# Altium schematic symbol library Mezeq_Wireless_Modules.SchLib: 2 symbols
Pins are listed as number, name and electrical type; pins without a type are passive.

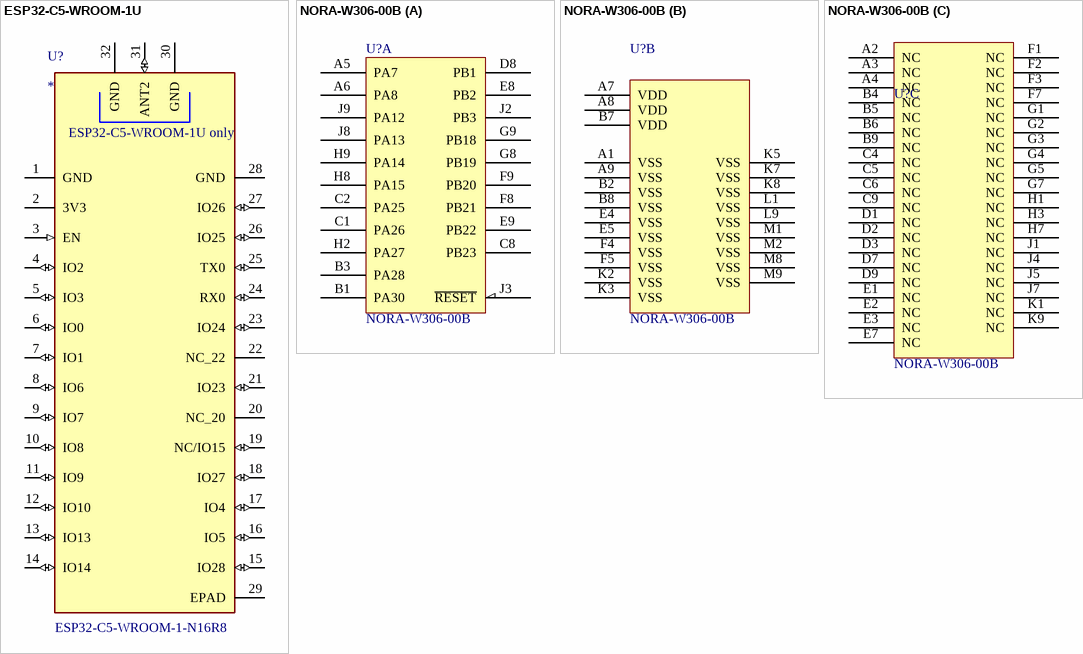
[diagram p0: symbols ESP32-C5-WROOM-1U to NORA-W306-00B]

## ESP32-C5-WROOM-1U
designator U?  Manufacturer Part Number 1: ESP32-C5-WROOM-1-N16R8
802.15.4, Bluetooth, WiFi 802.11b/g/n/ac/ax, Bluetooth v5.0, Thread, ZigbeeÂ® Transceiver Module 2.412GHz ~ 2.484GHz, 5.18GHz ~ 5.885GHz Antenna Not Included Surface Mount; Manufacturer 1: Espressif Systems; Supplier 1: Digikey; Supplier Part Number 1: 1965-ESP32-C5-WROOM-1-N16R8CT-ND; Manufacturer 2: Espressif Systems; Manufacturer Part Number 2: ESP32-C5-WROOM-1-N8R8; Supplier 2: Digikey; Supplier Part Number 2: 1965-ESP32-C5-WROOM-1-N8R8CT-ND
footprint ESP32-C5-WROOM-1 (Footprint compatible to 1U version)
pins: 1 GND (power), 2 3V3 (power), 3 EN (in), 4 IO2 (io), 5 IO3 (io), 6 IO0 (io), 7 IO1 (io), 8 IO6 (io), 9 IO7 (io), 10 IO8 (io), 11 IO9 (io), 12 IO10 (io), 13 IO13 (io), 14 IO14 (io), 15 IO28 (io), 16 IO5 (io), 17 IO4 (io), 18 IO27 (io), 19 NC/IO15 (io), 20 NC_20, 21 IO23 (io), 22 NC_22, 23 IO24 (io), 24 RX0 (io), 25 TX0 (io), 26 IO25 (io), 27 IO26 (io), 28 GND (power), 29 EPAD (power), 30 GND (power), 31 ANT2 (io), 32 GND (power)
text: ESP32-C5-WROOM-1U only

## NORA-W306-00B
designator U?
Bluetooth, WiFi 802.11a/b/g/n, Bluetooth v5.0 Transceiver Module 2.4GHz, 5GHz PCB Trace Surface Mount; Manufacturer 1: u-blox; Manufacturer Part Number 1: NORA-W306-00B; Supplier 1: Digikey; Supplier Part Number 1: 672-NORA-W306-00BCT-ND
footprint NORA-W306-00B
part A pins: A5 PA7, A6 PA8, B1 PA30, B3 PA28, C1 PA26, C2 PA25, C8 PB23, D8 PB1, E8 PB2, E9 PB22, F8 PB21, F9 PB20, G8 PB19, G9 PB18, H2 PA27, H8 PA15, H9 PA14, J2 PB3, J3 ~{RESET}, J8 PA13, J9 PA12
part B pins: A1 VSS (power), A7 VDD (power), A8 VDD (power), A9 VSS (power), B2 VSS (power), B7 VDD (power), B8 VSS (power), E4 VSS (power), E5 VSS (power), F4 VSS (power), F5 VSS (power), K2 VSS (power), K3 VSS (power), K5 VSS (power), K7 VSS (power), K8 VSS (power), L1 VSS (power), L9 VSS (power), M1 VSS (power), M2 VSS (power), M8 VSS (power), M9 VSS (power)
part C pins: A2 NC, A3 NC, A4 NC, B4 NC, B5 NC, B6 NC, B9 NC, C4 NC, C5 NC, C6 NC, C9 NC, D1 NC, D2 NC, D3 NC, D7 NC, D9 NC, E1 NC, E2 NC, E3 NC, E7 NC, F1 NC, F2 NC, F3 NC, F7 NC, G1 NC, G2 NC, G3 NC, G4 NC, G5 NC, G7 NC, H1 NC, H3 NC, H7 NC, J1 NC, J4 NC, J5 NC, J7 NC, K1 NC, K9 NC